# EAGLE library part TMS320DM6446AZWTA (library DSPs)
IC DIGITAL MEDIA SOC 361-BGA Manufacturer's datasheet <http://www.ti.com/lit/ds/symlink/tms320dm6446.pdf>
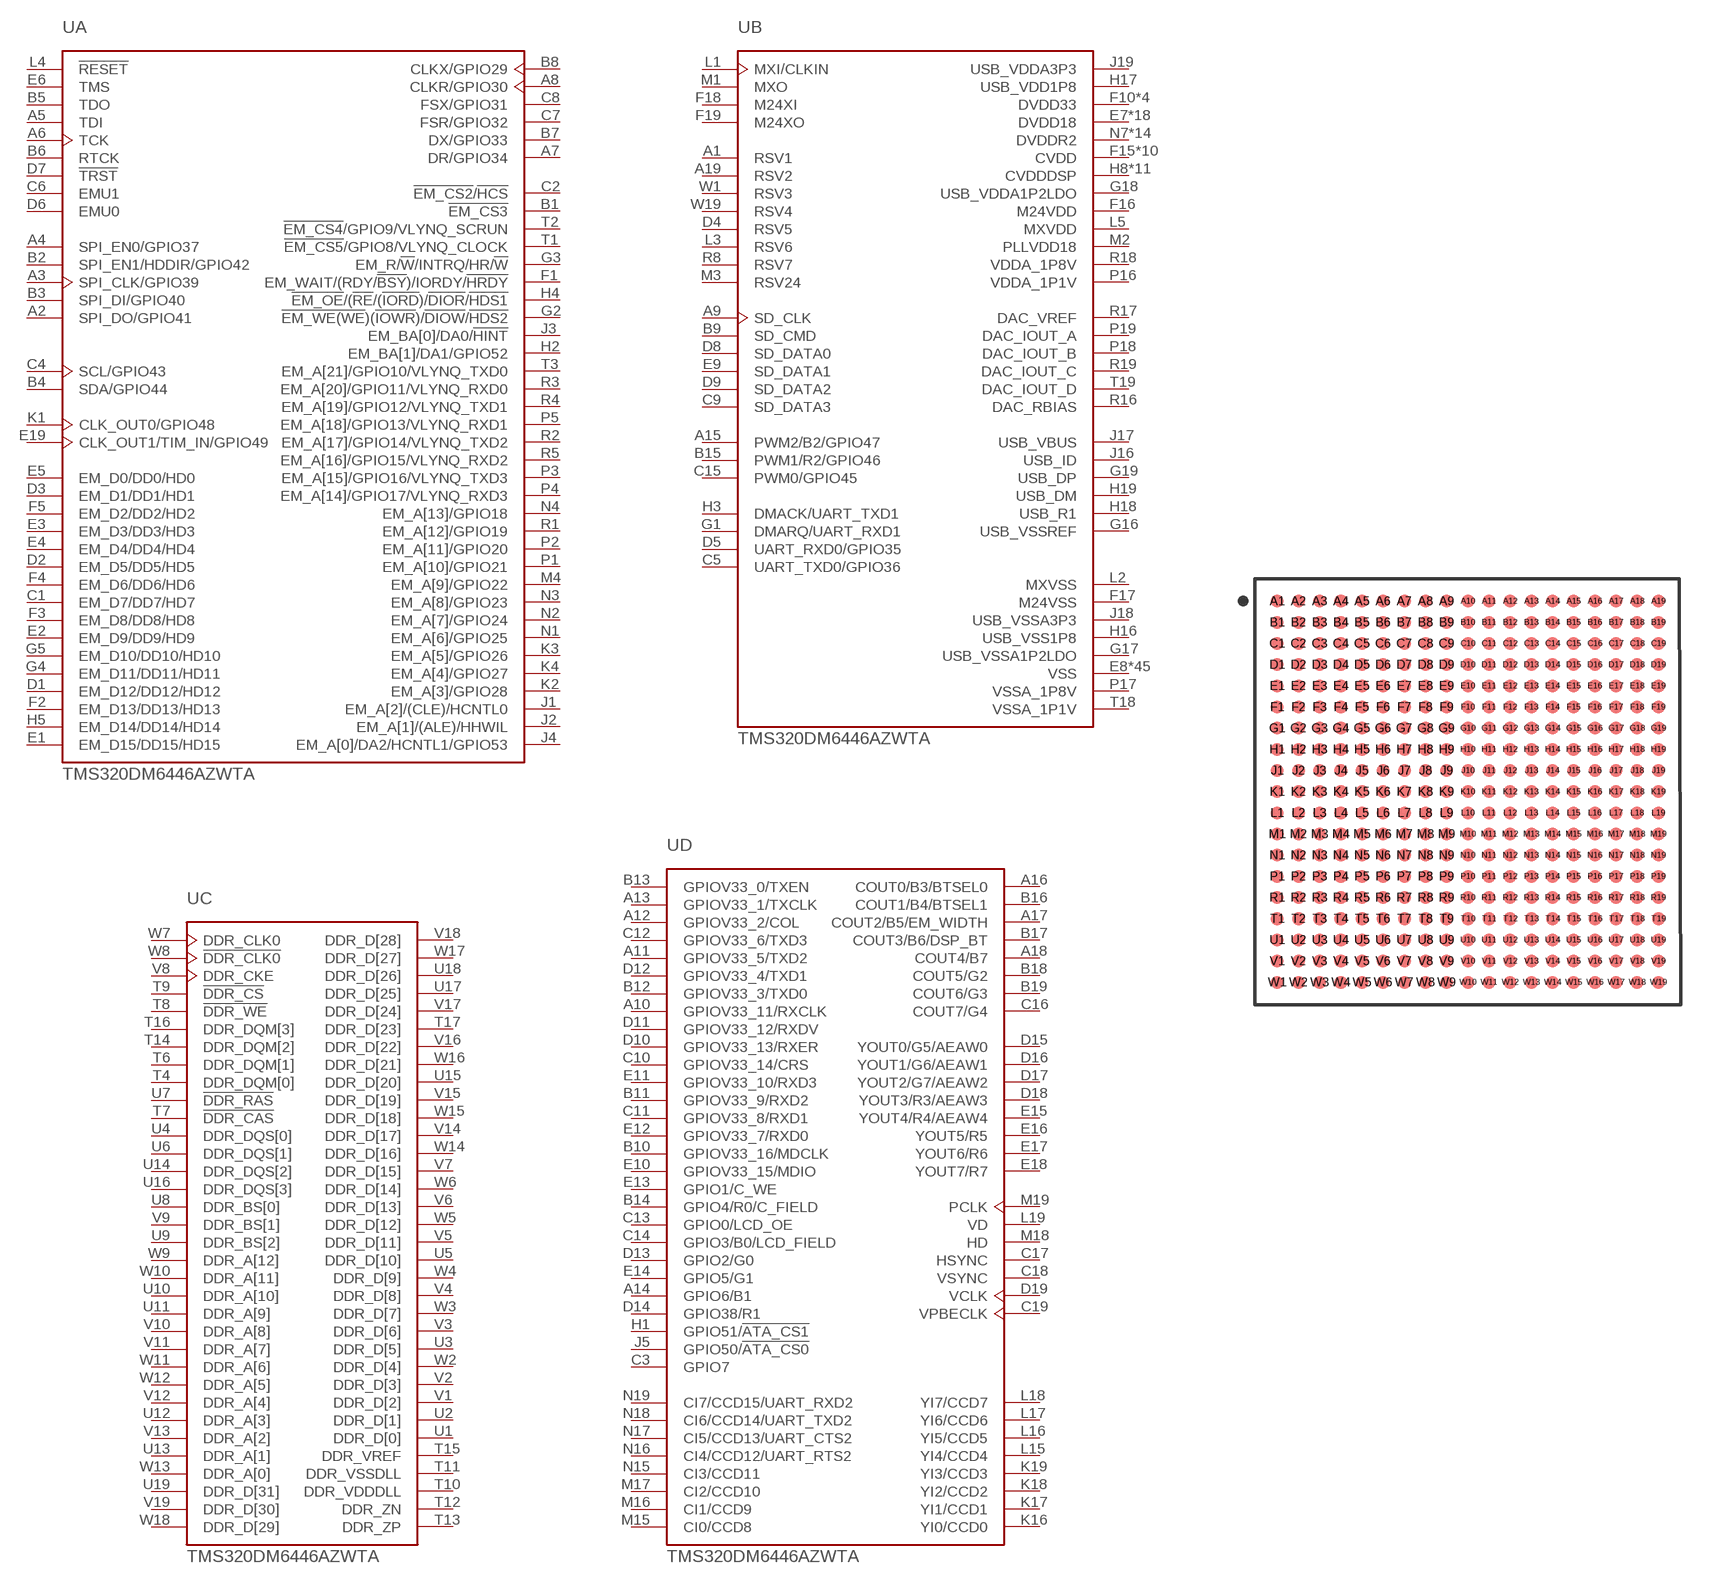
[diagram p8: symbol with the pads of BGA-361; footprint BGA-361]

Designator prefix U; gates A=TMS320DM6446AZWTA-1 B=TMS320DM6446AZWTA-2 C=TMS320DM6446AZWTA-3 D=TMS320DM6446AZWTA-4

## TMS320DM6446AZWTA (CREATED_BY: PCBLayout.com; DIGIKEY_PN: 296-26855-5-ND; MANUFACTURER: Texas Instruments; MPN: TMS320DM6446AZWTA; PACKAGE: BGA-361)  [BGA-361]
A1  B:RSV1  pas
A2  A:SPI_DO/GPIO41
A3  A:SPI_CLK/GPIO39
A4  A:SPI_EN0/GPIO37
A5  A:TDI  in
A6  A:TCK  in
A7  A:DR/GPIO34
A8  A:CLKR/GPIO30
A9  B:SD_CLK  out
A10  D:GPIOV33_11/RXCLK
A11  D:GPIOV33_5/TXD2
A12  D:GPIOV33_2/COL
A13  D:GPIOV33_1/TXCLK
A14  D:GPIO6/B1
A15  B:PWM2/B2/GPIO47
A16  D:COUT0/B3/BTSEL0
A17  D:COUT2/B5/EM_WIDTH
A18  D:COUT4/B7
A19  B:RSV2  pas
B1  A:!EM_CS3
B2  A:SPI_EN1/HDDIR/GPIO42
B3  A:SPI_DI/GPIO40
B4  A:SDA/GPIO44
B5  A:TDO  out
B6  A:RTCK  out
B7  A:DX/GPIO33
B8  A:CLKX/GPIO29
B9  B:SD_CMD
B10  D:GPIOV33_16/MDCLK
B11  D:GPIOV33_9/RXD2
B12  D:GPIOV33_3/TXD0
B13  D:GPIOV33_0/TXEN
B14  D:GPIO4/R0/C_FIELD
B15  B:PWM1/R2/GPIO46
B16  D:COUT1/B4/BTSEL1
B17  D:COUT3/B6/DSP_BT
B18  D:COUT5/G2
B19  D:COUT6/G3
C1  A:EM_D7/DD7/HD7
C2  A:!EM_CS2!/!HCS
C3  D:GPIO7
C4  A:SCL/GPIO43
C5  B:UART_TXD0/GPIO36
C6  A:EMU1
C7  A:FSR/GPIO32
C8  A:FSX/GPIO31
C9  B:SD_DATA3
C10  D:GPIOV33_14/CRS
C11  D:GPIOV33_8/RXD1
C12  D:GPIOV33_6/TXD3
C13  D:GPIO0/LCD_OE
C14  D:GPIO3/B0/LCD_FIELD
C15  B:PWM0/GPIO45
C16  D:COUT7/G4
C17  D:HSYNC
C18  D:VSYNC
C19  D:VPBECLK
D1  A:EM_D12/DD12/HD12
D2  A:EM_D5/DD5/HD5
D3  A:EM_D1/DD1/HD1
D4  B:RSV5  in
D5  B:UART_RXD0/GPIO35
D6  A:EMU0
D7  A:!TRST  in
D8  B:SD_DATA0
D9  B:SD_DATA2
D10  D:GPIOV33_13/RXER
D11  D:GPIOV33_12/RXDV
D12  D:GPIOV33_4/TXD1
D13  D:GPIO2/G0
D14  D:GPIO38/R1
D15  D:YOUT0/G5/AEAW0
D16  D:YOUT1/G6/AEAW1
D17  D:YOUT2/G7/AEAW2
D18  D:YOUT3/R3/AEAW3
D19  D:VCLK
E1  A:EM_D15/DD15/HD15
E2  A:EM_D9/DD9/HD9
E3  A:EM_D3/DD3/HD3
E4  A:EM_D4/DD4/HD4
E5  A:EM_D0/DD0/HD0
E6  A:TMS  in
E7  B:DVDD18  pwr
E8  B:VSS  pwr
E9  B:SD_DATA1
E10  D:GPIOV33_15/MDIO
E11  D:GPIOV33_10/RXD3
E12  D:GPIOV33_7/RXD0
E13  D:GPIO1/C_WE
E14  D:GPIO5/G1
E15  D:YOUT4/R4/AEAW4
E16  D:YOUT5/R5
E17  D:YOUT6/R6
E18  D:YOUT7/R7
E19  A:CLK_OUT1/TIM_IN/GPIO49
F1  A:EM_WAIT/(RDY/!BSY!)/IORDY/!HRDY
F2  A:EM_D13/DD13/HD13
F3  A:EM_D8/DD8/HD8
F4  A:EM_D6/DD6/HD6
F5  A:EM_D2/DD2/HD2
F6  B:DVDD18  pwr
F7  B:VSS  pwr
F8  B:DVDD18  pwr
F9  B:VSS  pwr
F10  B:DVDD33  pwr
F11  B:DVDD33  pwr
F12  B:DVDD33  pwr
F13  B:DVDD33  pwr
F14  B:DVDD18  pwr
F15  B:CVDD  pwr
F16  B:M24VDD  pwr
F17  B:M24VSS  pwr
F18  B:M24XI  in
F19  B:M24XO  out
G1  B:DMARQ/UART_RXD1
G2  A:!EM_WE(WE!)(!IOWR!)/!DIOW!/!HDS2
G3  A:EM_R/!W!/INTRQ/HR/!W
G4  A:EM_D11/DD11/HD11
G5  A:EM_D10/DD10/HD10
G6  B:VSS  pwr
G7  B:DVDD18  pwr
G8  B:VSS  pwr
G9  B:DVDD18  pwr
G10  B:VSS  pwr
G11  B:VSS  pwr
G12  B:VSS  pwr
G13  B:VSS  pwr
G14  B:VSS  pwr
G15  B:DVDD18  pwr
G16  B:USB_VSSREF  pwr
G17  B:USB_VSSA1P2LDO  pwr
G18  B:USB_VDDA1P2LDO  pwr
G19  B:USB_DP
H1  D:GPIO51/!ATA_CS1
H2  A:EM_BA[1]/DA1/GPIO52
H3  B:DMACK/UART_TXD1
H4  A:!EM_OE!/(!RE!/(!IORD!)/!DIOR!/!HDS1
H5  A:EM_D14/DD14/HD14
H6  B:DVDD18  pwr
H7  B:VSS  pwr
H8  B:CVDDDSP  pwr
H9  B:VSS  pwr
H10  B:CVDDDSP  pwr
H11  B:CVDDDSP  pwr
H12  B:CVDDDSP  pwr
H13  B:VSS  pwr
H14  B:DVDD18  pwr
H15  B:VSS  pwr
H16  B:USB_VSS1P8  pwr
H17  B:USB_VDD1P8  pwr
H18  B:USB_R1
H19  B:USB_DM
J1  A:EM_A[2]/(CLE)/HCNTL0
J2  A:EM_A[1]/(ALE)/HHWIL
J3  A:EM_BA[0]/DA0/!HINT
J4  A:EM_A[0]/DA2/HCNTL1/GPIO53
J5  D:GPIO50/!ATA_CS0
J6  B:VSS  pwr
J7  B:DVDD18  pwr
J8  B:VSS  pwr
J9  B:CVDDDSP  pwr
J10  B:CVDDDSP  pwr
J11  B:CVDDDSP  pwr
J12  B:VSS  pwr
J13  B:CVDDDSP  pwr
J14  B:VSS  pwr
J15  B:DVDD18  pwr
J16  B:USB_ID
J17  B:USB_VBUS
J18  B:USB_VSSA3P3  pwr
J19  B:USB_VDDA3P3  pwr
K1  A:CLK_OUT0/GPIO48
K2  A:EM_A[3]/GPIO28
K3  A:EM_A[5]/GPIO26
K4  A:EM_A[4]/GPIO27
K5  B:VSS  pwr
K6  B:DVDD18  pwr
K7  B:VSS  pwr
K8  B:CVDDDSP  pwr
K9  B:CVDDDSP  pwr
K10  B:CVDD  pwr
K11  B:CVDDDSP  pwr
K12  B:CVDD  pwr
K13  B:VSS  pwr
K14  B:DVDD18  pwr
K15  B:VSS  pwr
K16  D:YI0/CCD0
K17  D:YI1/CCD1
K18  D:YI2/CCD2
K19  D:YI3/CCD3
L1  B:MXI/CLKIN  in
L2  B:MXVSS  pwr
L3  B:RSV6  pas
L4  A:!RESET  in
L5  B:MXVDD  pwr
L6  B:VSS  pwr
L7  B:DVDD18  pwr
L8  B:CVDD  pwr
L9  B:CVDD  pwr
L10  B:CVDD  pwr
L11  B:CVDD  pwr
L12  B:VSS  pwr
L13  B:DVDD18  pwr
L14  B:VSS  pwr
L15  D:YI4/CCD4
L16  D:YI5/CCD5
L17  D:YI6/CCD6
L18  D:YI7/CCD7
L19  D:VD
M1  B:MXO  out
M2  B:PLLVDD18  pwr
M3  B:RSV24  pas
M4  A:EM_A[9]/GPIO22
M5  B:VSS  pwr
M6  B:DVDD18  pwr
M7  B:VSS  pwr
M8  B:CVDD  pwr
M9  B:VSS  pwr
M10  B:CVDD  pwr
M11  B:VSS  pwr
M12  B:CVDD  pwr
M13  B:VSS  pwr
M14  B:DVDD18  pwr
M15  D:CI0/CCD8
M16  D:CI1/CCD9
M17  D:CI2/CCD10
M18  D:HD
M19  D:PCLK  in
N1  A:EM_A[6]/GPIO25
N2  A:EM_A[7]/GPIO24
N3  A:EM_A[8]/GPIO23
N4  A:EM_A[13]/GPIO18
N5  B:DVDD18  pwr
N6  B:VSS  pwr
N7  B:DVDDR2  pwr
N8  B:VSS  pwr
N9  B:DVDDR2  pwr
N10  B:VSS  pwr
N11  B:DVDDR2  pwr
N12  B:VSS  pwr
N13  B:DVDDR2  pwr
N14  B:VSS  pwr
N15  D:CI3/CCD11
N16  D:CI4/CCD12/UART_RTS2
N17  D:CI5/CCD13/UART_CTS2
N18  D:CI6/CCD14/UART_TXD2
N19  D:CI7/CCD15/UART_RXD2
P1  A:EM_A[10]/GPIO21
P2  A:EM_A[11]/GPIO20
P3  A:EM_A[15]/GPIO16/VLYNQ_TXD3
P4  A:EM_A[14]/GPIO17/VLYNQ_RXD3
P5  A:EM_A[18]/GPIO13/VLYNQ_RXD1
P6  B:DVDDR2  pwr
P7  B:VSS  pwr
P8  B:DVDDR2  pwr
P9  B:VSS  pwr
P10  B:DVDDR2  pwr
P11  B:VSS  pwr
P12  B:DVDDR2  pwr
P13  B:VSS  pwr
P14  B:DVDDR2  pwr
P15  B:VSS  pwr
P16  B:VDDA_1P1V  pwr
P17  B:VSSA_1P8V  pwr
P18  B:DAC_IOUT_B  out
P19  B:DAC_IOUT_A  out
R1  A:EM_A[12]/GPIO19
R2  A:EM_A[17]/GPIO14/VLYNQ_TXD2
R3  A:EM_A[20]/GPIO11/VLYNQ_RXD0
R4  A:EM_A[19]/GPIO12/VLYNQ_TXD1
R5  A:EM_A[16]/GPIO15/VLYNQ_RXD2
R6  B:VSS  pwr
R7  B:VSS  pwr
R8  B:RSV7  pas
R9  B:DVDDR2  pwr
R10  B:VSS  pwr
R11  B:DVDDR2  pwr
R12  B:VSS  pwr
R13  B:DVDDR2  pwr
R14  B:VSS  pwr
R15  B:DVDDR2  pwr
R16  B:DAC_RBIAS  in
R17  B:DAC_VREF  in
R18  B:VDDA_1P8V  pwr
R19  B:DAC_IOUT_C  out
T1  A:!EM_CS5!/GPIO8/VLYNQ_CLOCK
T2  A:!EM_CS4!/GPIO9/VLYNQ_SCRUN
T3  A:EM_A[21]/GPIO10/VLYNQ_TXD0
T4  C:DDR_DQM[0]
T5  B:DVDDR2  pwr
T6  C:DDR_DQM[1]
T7  C:!DDR_CAS
T8  C:!DDR_WE
T9  C:!DDR_CS
T10  C:DDR_VDDDLL  pwr
T11  C:DDR_VSSDLL  pwr
T12  C:DDR_ZN  out
T13  C:DDR_ZP  out
T14  C:DDR_DQM[2]
T15  C:DDR_VREF  in
T16  C:DDR_DQM[3]
T17  C:DDR_D[23]
T18  B:VSSA_1P1V  pwr
T19  B:DAC_IOUT_D  out
U1  C:DDR_D[0]
U2  C:DDR_D[1]
U3  C:DDR_D[5]
U4  C:DDR_DQS[0]
U5  C:DDR_D[10]
U6  C:DDR_DQS[1]
U7  C:!DDR_RAS
U8  C:DDR_BS[0]
U9  C:DDR_BS[2]
U10  C:DDR_A[10]
U11  C:DDR_A[9]
U12  C:DDR_A[3]
U13  C:DDR_A[1]
U14  C:DDR_DQS[2]
U15  C:DDR_D[20]
U16  C:DDR_DQS[3]
U17  C:DDR_D[25]
U18  C:DDR_D[26]
U19  C:DDR_D[31]
V1  C:DDR_D[2]
V2  C:DDR_D[3]
V3  C:DDR_D[6]
V4  C:DDR_D[8]
V5  C:DDR_D[11]
V6  C:DDR_D[13]
V7  C:DDR_D[15]
V8  C:DDR_CKE
V9  C:DDR_BS[1]
V10  C:DDR_A[8]
V11  C:DDR_A[7]
V12  C:DDR_A[4]
V13  C:DDR_A[2]
V14  C:DDR_D[17]
V15  C:DDR_D[19]
V16  C:DDR_D[22]
V17  C:DDR_D[24]
V18  C:DDR_D[28]
V19  C:DDR_D[30]
W1  B:RSV3  pas
W2  C:DDR_D[4]
W3  C:DDR_D[7]
W4  C:DDR_D[9]
W5  C:DDR_D[12]
W6  C:DDR_D[14]
W7  C:DDR_CLK0
W8  C:!DDR_CLK0
W9  C:DDR_A[12]
W10  C:DDR_A[11]
W11  C:DDR_A[6]
W12  C:DDR_A[5]
W13  C:DDR_A[0]
W14  C:DDR_D[16]
W15  C:DDR_D[18]
W16  C:DDR_D[21]
W17  C:DDR_D[27]
W18  C:DDR_D[29]
W19  B:RSV4  pas

## Footprint BGA-361 (pad centres in mm)
smd 0.5 x 0.5: A1 -7.2,7.2; A2 -6.4,7.2; A3 -5.6,7.2; A4 -4.8,7.2; A5 -4,7.2; A6 -3.2,7.2; A7 -2.4,7.2; A8 -1.6,7.2; A9 -0.8,7.2; A10 0,7.2; A11 0.8,7.2; A12 1.6,7.2; A13 2.4,7.2; A14 3.2,7.2; A15 4,7.2; A16 4.8,7.2; A17 5.6,7.2; A18 6.4,7.2; A19 7.2,7.2; B1 -7.2,6.4; B2 -6.4,6.4; B3 -5.6,6.4; B4 -4.8,6.4; B5 -4,6.4; B6 -3.2,6.4; B7 -2.4,6.4; B8 -1.6,6.4; B9 -0.8,6.4; B10 0,6.4; B11 0.8,6.4; B12 1.6,6.4; B13 2.4,6.4; B14 3.2,6.4; B15 4,6.4; B16 4.8,6.4; B17 5.6,6.4; B18 6.4,6.4; B19 7.2,6.4; C1 -7.2,5.6; C2 -6.4,5.6; C3 -5.6,5.6; C4 -4.8,5.6; C5 -4,5.6; C6 -3.2,5.6; C7 -2.4,5.6; C8 -1.6,5.6; C9 -0.8,5.6; C10 0,5.6; C11 0.8,5.6; C12 1.6,5.6; C13 2.4,5.6; C14 3.2,5.6; C15 4,5.6; C16 4.8,5.6; C17 5.6,5.6; C18 6.4,5.6; C19 7.2,5.6; D1 -7.2,4.8; D2 -6.4,4.8; D3 -5.6,4.8; D4 -4.8,4.8; D5 -4,4.8; D6 -3.2,4.8; D7 -2.4,4.8; D8 -1.6,4.8; D9 -0.8,4.8; D10 0,4.8; D11 0.8,4.8; D12 1.6,4.8; D13 2.4,4.8; D14 3.2,4.8; D15 4,4.8; D16 4.8,4.8; D17 5.6,4.8; D18 6.4,4.8; D19 7.2,4.8; E1 -7.2,4; E2 -6.4,4; E3 -5.6,4; E4 -4.8,4; E5 -4,4; E6 -3.2,4; E7 -2.4,4; E8 -1.6,4; E9 -0.8,4; E10 0,4; E11 0.8,4; E12 1.6,4; E13 2.4,4; E14 3.2,4; E15 4,4; E16 4.8,4; E17 5.6,4; E18 6.4,4; E19 7.2,4; F1 -7.2,3.2; F2 -6.4,3.2; F3 -5.6,3.2; F4 -4.8,3.2; F5 -4,3.2; F6 -3.2,3.2; F7 -2.4,3.2; F8 -1.6,3.2; F9 -0.8,3.2; F10 0,3.2; F11 0.8,3.2; F12 1.6,3.2; F13 2.4,3.2; F14 3.2,3.2; F15 4,3.2; F16 4.8,3.2; F17 5.6,3.2; F18 6.4,3.2; F19 7.2,3.2; G1 -7.2,2.4; G2 -6.4,2.4; G3 -5.6,2.4; G4 -4.8,2.4; G5 -4,2.4; G6 -3.2,2.4; G7 -2.4,2.4; G8 -1.6,2.4; G9 -0.8,2.4; G10 0,2.4; G11 0.8,2.4; G12 1.6,2.4; G13 2.4,2.4; G14 3.2,2.4; G15 4,2.4; G16 4.8,2.4; G17 5.6,2.4; G18 6.4,2.4; G19 7.2,2.4; H1 -7.2,1.6; H2 -6.4,1.6; H3 -5.6,1.6; H4 -4.8,1.6; H5 -4,1.6; H6 -3.2,1.6; H7 -2.4,1.6; H8 -1.6,1.6; H9 -0.8,1.6; H10 0,1.6; H11 0.8,1.6; H12 1.6,1.6; H13 2.4,1.6; H14 3.2,1.6; H15 4,1.6; H16 4.8,1.6; H17 5.6,1.6; H18 6.4,1.6; H19 7.2,1.6; J1 -7.2,0.8; J2 -6.4,0.8; J3 -5.6,0.8; J4 -4.8,0.8; J5 -4,0.8; J6 -3.2,0.8; J7 -2.4,0.8; J8 -1.6,0.8; J9 -0.8,0.8; J10 0,0.8; J11 0.8,0.8; J12 1.6,0.8; J13 2.4,0.8; J14 3.2,0.8; J15 4,0.8; J16 4.8,0.8; J17 5.6,0.8; J18 6.4,0.8; J19 7.2,0.8; K1 -7.2,0; K2 -6.4,0; K3 -5.6,0; K4 -4.8,0; K5 -4,0; K6 -3.2,0; K7 -2.4,0; K8 -1.6,0; K9 -0.8,0; K10 0,0; K11 0.8,0; K12 1.6,0; K13 2.4,0; K14 3.2,0; K15 4,0; K16 4.8,0; K17 5.6,0; K18 6.4,0; K19 7.2,0; L1 -7.2,-0.8; L2 -6.4,-0.8; L3 -5.6,-0.8; L4 -4.8,-0.8; L5 -4,-0.8; L6 -3.2,-0.8; L7 -2.4,-0.8; L8 -1.6,-0.8; L9 -0.8,-0.8; L10 0,-0.8; L11 0.8,-0.8; L12 1.6,-0.8; L13 2.4,-0.8; L14 3.2,-0.8; L15 4,-0.8; L16 4.8,-0.8; L17 5.6,-0.8; L18 6.4,-0.8; L19 7.2,-0.8; M1 -7.2,-1.6; M2 -6.4,-1.6; M3 -5.6,-1.6; M4 -4.8,-1.6; M5 -4,-1.6; M6 -3.2,-1.6; M7 -2.4,-1.6; M8 -1.6,-1.6; M9 -0.8,-1.6; M10 0,-1.6; M11 0.8,-1.6; M12 1.6,-1.6; M13 2.4,-1.6; M14 3.2,-1.6; M15 4,-1.6; M16 4.8,-1.6; M17 5.6,-1.6; M18 6.4,-1.6; M19 7.2,-1.6; N1 -7.2,-2.4; N2 -6.4,-2.4; N3 -5.6,-2.4; N4 -4.8,-2.4; N5 -4,-2.4; N6 -3.2,-2.4; N7 -2.4,-2.4; N8 -1.6,-2.4; N9 -0.8,-2.4; N10 0,-2.4; N11 0.8,-2.4; N12 1.6,-2.4; N13 2.4,-2.4; N14 3.2,-2.4; N15 4,-2.4; N16 4.8,-2.4; N17 5.6,-2.4; N18 6.4,-2.4; N19 7.2,-2.4; P1 -7.2,-3.2; P2 -6.4,-3.2; P3 -5.6,-3.2; P4 -4.8,-3.2; P5 -4,-3.2; P6 -3.2,-3.2; P7 -2.4,-3.2; P8 -1.6,-3.2; P9 -0.8,-3.2; P10 0,-3.2; P11 0.8,-3.2; P12 1.6,-3.2; P13 2.4,-3.2; P14 3.2,-3.2; P15 4,-3.2; P16 4.8,-3.2; P17 5.6,-3.2; P18 6.4,-3.2; P19 7.2,-3.2; R1 -7.2,-4; R2 -6.4,-4; R3 -5.6,-4; R4 -4.8,-4; R5 -4,-4; R6 -3.2,-4; R7 -2.4,-4; R8 -1.6,-4; R9 -0.8,-4; R10 0,-4; R11 0.8,-4; R12 1.6,-4; R13 2.4,-4; R14 3.2,-4; R15 4,-4; R16 4.8,-4; R17 5.6,-4; R18 6.4,-4; R19 7.2,-4; T1 -7.2,-4.8; T2 -6.4,-4.8; T3 -5.6,-4.8; T4 -4.8,-4.8; T5 -4,-4.8; T6 -3.2,-4.8; T7 -2.4,-4.8; T8 -1.6,-4.8; T9 -0.8,-4.8; T10 0,-4.8; T11 0.8,-4.8; T12 1.6,-4.8; T13 2.4,-4.8; T14 3.2,-4.8; T15 4,-4.8; T16 4.8,-4.8; T17 5.6,-4.8; T18 6.4,-4.8; T19 7.2,-4.8; U1 -7.2,-5.6; U2 -6.4,-5.6; U3 -5.6,-5.6; U4 -4.8,-5.6; U5 -4,-5.6; U6 -3.2,-5.6; U7 -2.4,-5.6; U8 -1.6,-5.6; U9 -0.8,-5.6; U10 0,-5.6; U11 0.8,-5.6; U12 1.6,-5.6; U13 2.4,-5.6; U14 3.2,-5.6; U15 4,-5.6; U16 4.8,-5.6; U17 5.6,-5.6; U18 6.4,-5.6; U19 7.2,-5.6; V1 -7.2,-6.4; V2 -6.4,-6.4; V3 -5.6,-6.4; V4 -4.8,-6.4; V5 -4,-6.4; V6 -3.2,-6.4; V7 -2.4,-6.4; V8 -1.6,-6.4; V9 -0.8,-6.4; V10 0,-6.4; V11 0.8,-6.4; V12 1.6,-6.4; V13 2.4,-6.4; V14 3.2,-6.4; V15 4,-6.4; V16 4.8,-6.4; V17 5.6,-6.4; V18 6.4,-6.4; V19 7.2,-6.4; W1 -7.2,-7.2; W2 -6.4,-7.2; W3 -5.6,-7.2; W4 -4.8,-7.2; W5 -4,-7.2; W6 -3.2,-7.2; W7 -2.4,-7.2; W8 -1.6,-7.2; W9 -0.8,-7.2; W10 0,-7.2; W11 0.8,-7.2; W12 1.6,-7.2; W13 2.4,-7.2; W14 3.2,-7.2; W15 4,-7.2; W16 4.8,-7.2; W17 5.6,-7.2; W18 6.4,-7.2; W19 7.2,-7.2